# Altium schematic symbol library Interface_Optical.SchLib: 42 symbols
Pins are listed as number, name and electrical type; pins without a type are passive.

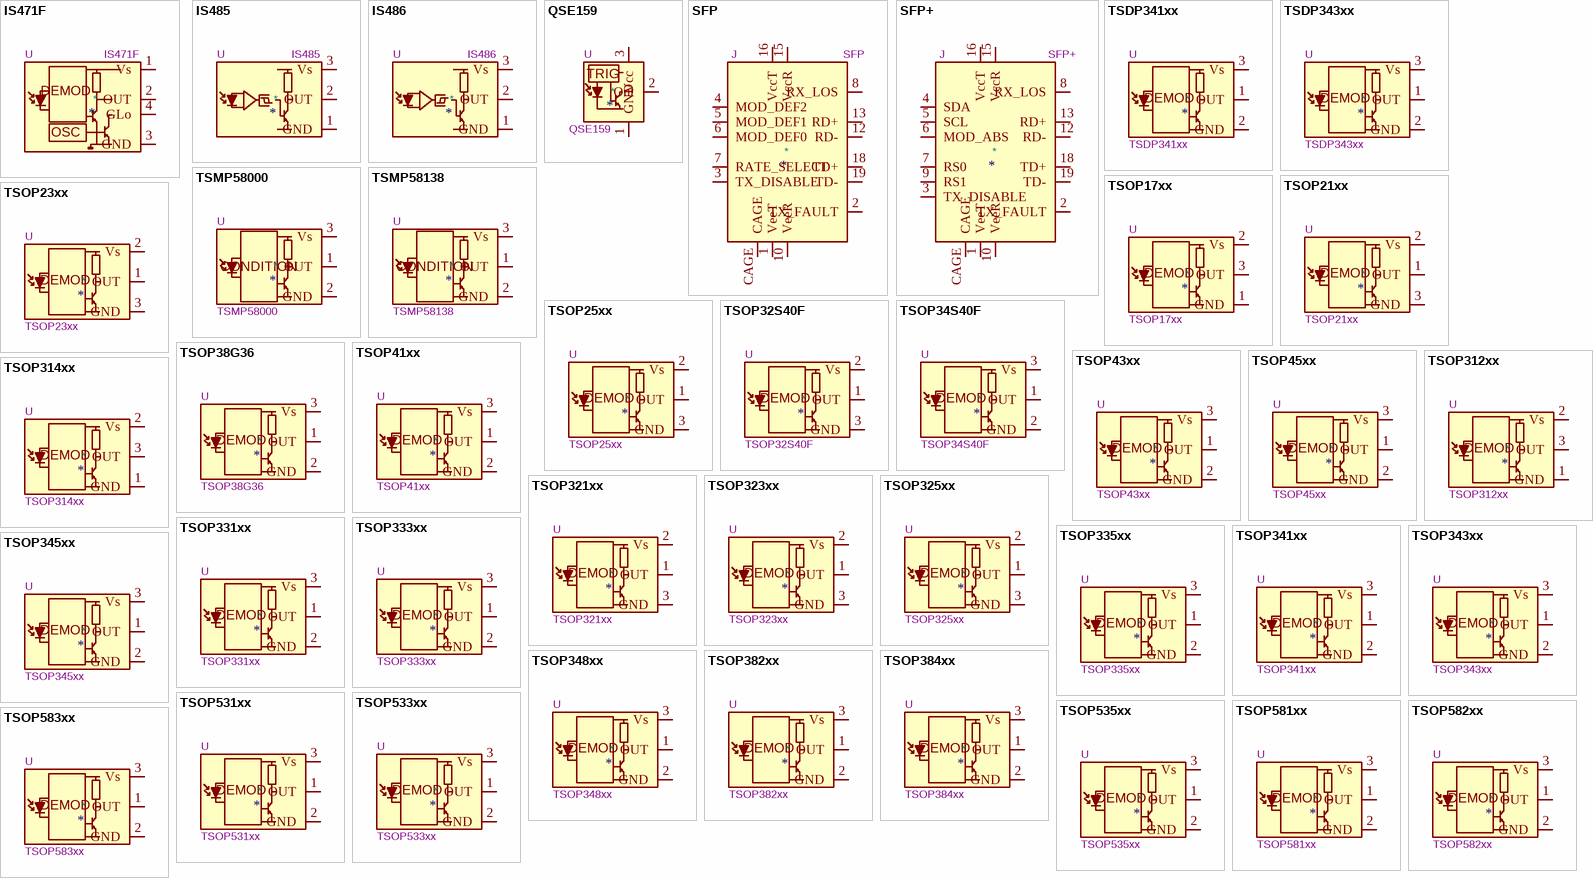
[diagram p0: symbols IS471F to TSOP583xx]

## IS471F
designator *  value IS471F  Reference: U
ki_keywords: opto IR receiver; ki_description: Photo Modules for PCM Remote Control Systems; ki_fp_filters: Sharp*IS471F*; Footprint: OptoDevice:Sharp_IS471F; Datasheet: http://www.micropik.com/PDF/tsop17xx.pdf
pins: 1 Vs, 2 OUT, 3 GND, 4 GLo
text: DEMOD; OSC

## IS485
designator *  value IS485  Reference: U
ki_keywords: opto receiver amplifier light detector OPIC; ki_description: Built-in Amplifier Type OPIC Light Detector; ki_fp_filters: Sharp*IS485*; Footprint: OptoDevice:Sharp_IS485; Datasheet: https://media.digikey.com/pdf/Data%20Sheets/Sharp%20PDFs/is485,486_e.pdf
pins: 1 GND, 2 OUT, 3 Vs

## IS486
designator *  value IS486  Reference: U
ki_keywords: opto receiver amplifier light detector OPIC; ki_description: Built-in Amplifier Type OPIC Light Detector; ki_fp_filters: Sharp*IS485*; Footprint: OptoDevice:Sharp_IS485; Datasheet: https://media.digikey.com/pdf/Data%20Sheets/Sharp%20PDFs/is485,486_e.pdf
pins: 1 GND, 2 OUT, 3 Vs

## QSE159
designator *  value QSE159  Reference: U
ki_keywords: opto IR; ki_description: Plastic Silicon Photosensor; ki_fp_filters: *QSE15*; Footprint: OptoDevice:ONSemi_QSE15x; Datasheet: http://www.onsemi.com/pub/Collateral/QSE159-D.pdf
pins: 1 GND, 2 Out, 3 Vcc
text: TRIG

## SFP
designator *  value SFP  Reference: J
ki_keywords: SFP transceiver gigabit ethernet INF-8074i; ki_description: Connector for Small Form Factor Pluggable (SFP) module, 1 Gbit/s, serial-to-serial data-agnostic optical transceiver; ki_fp_filters: *SFP*; Datasheet: http://www.10gtek.com/templates/wzten/pdf/INF-8074.pdf
pins: 1 VeeT, 2 TX_FAULT, 3 TX_DISABLE, 4 MOD_DEF2, 5 MOD_DEF1, 6 MOD_DEF0, 7 RATE_SELECT, 8 RX_LOS, 9 VeeR hidden, 10 VeeR, 11 VeeR hidden, 12 RD-, 13 RD+, 14 VeeR hidden, 15 VccR, 16 VccT, 17 VeeT hidden, 18 TD+, 19 TD-, 20 VeeT hidden, CAGE

## SFP+
designator *  value SFP+  Reference: J
ki_keywords: SFP transceiver gigabit ethernet SFF-8432; ki_description: Connector for Small Form Factor Pluggable (SFP+) module, 10 Gbit/s, serial-to-serial data-agnostic optical transceiver; ki_fp_filters: *SFP*; Datasheet: https://members.snia.org/document/dl/25892
pins: 1 VeeT, 2 TX_FAULT, 3 TX_DISABLE, 4 SDA, 5 SCL, 6 MOD_ABS, 7 RS0, 8 RX_LOS, 9 RS1, 10 VeeR, 11 VeeR hidden, 12 RD-, 13 RD+, 14 VeeR hidden, 15 VccR, 16 VccT, 17 VeeT hidden, 18 TD+, 19 TD-, 20 VeeT hidden, CAGE

## TSDP341xx
designator *  value TSDP341xx  Reference: U
ki_keywords: opto IR receiver; ki_description: IR Receiver Modules for Data Transmission; ki_fp_filters: Vishay*MOLD*; Footprint: OptoDevice:Vishay_MOLD-3Pin; Datasheet: http://www.vishay.com/docs/82667/tsdp341.pdf
pins: 1 OUT, 2 GND, 3 Vs
text: DEMOD

## TSDP343xx
designator *  value TSDP343xx  Reference: U
ki_keywords: opto IR receiver; ki_description: IR Receiver Modules for Data Transmission; ki_fp_filters: Vishay*MOLD*; Footprint: OptoDevice:Vishay_MOLD-3Pin; Datasheet: http://www.vishay.com/docs/82667/tsdp341.pdf
pins: 1 OUT, 2 GND, 3 Vs
text: DEMOD

## TSMP58000
designator *  value TSMP58000  Reference: U
ki_keywords: opto IR receiver; ki_description: Photo Module (Amplify&Condition) for PCM Remote Control Systems; ki_fp_filters: Vishay*MINICAST*; Footprint: OptoDevice:Vishay_MINICAST-3Pin; Datasheet: http://www.vishay.com/docs/82485/tsmp58000.pdf
pins: 1 OUT, 2 GND, 3 Vs
text: CONDITION

## TSMP58138
designator *  value TSMP58138  Reference: U
ki_keywords: opto IR repeater receiver; ki_description: Photo Module (Repeater) for PCM Remote Control Systems; ki_fp_filters: Vishay*MINICAST*; Footprint: OptoDevice:Vishay_MINICAST-3Pin; Datasheet: http://www.vishay.com/docs/82486/tsmp58138.pdf
pins: 1 OUT, 2 GND, 3 Vs
text: CONDITION

## TSOP17xx
designator *  value TSOP17xx  Reference: U
ki_keywords: opto IR receiver; ki_description: Photo Modules for PCM Remote Control Systems; ki_fp_filters: Vishay*CAST*; Footprint: OptoDevice:Vishay_CAST-3Pin; Datasheet: http://www.micropik.com/PDF/tsop17xx.pdf
pins: 1 GND, 2 Vs, 3 OUT
text: DEMOD

## TSOP21xx
designator *  value TSOP21xx  Reference: U
ki_keywords: opto IR receiver; ki_description: IR Receiver Modules for Remote Control Systems; ki_fp_filters: Vishay*MOLD*; Footprint: OptoDevice:Vishay_MOLD-3Pin; Datasheet: http://www.vishay.com/docs/82460/tsop45.pdf
pins: 1 OUT, 2 Vs, 3 GND
text: DEMOD

## TSOP23xx
designator *  value TSOP23xx  Reference: U
ki_keywords: opto IR receiver; ki_description: IR Receiver Modules for Remote Control Systems; ki_fp_filters: Vishay*MOLD*; Footprint: OptoDevice:Vishay_MOLD-3Pin; Datasheet: http://www.vishay.com/docs/82460/tsop45.pdf
pins: 1 OUT, 2 Vs, 3 GND
text: DEMOD

## TSOP25xx
designator *  value TSOP25xx  Reference: U
ki_keywords: opto IR receiver; ki_description: IR Receiver Modules for Remote Control Systems; ki_fp_filters: Vishay*MOLD*; Footprint: OptoDevice:Vishay_MOLD-3Pin; Datasheet: http://www.vishay.com/docs/82460/tsop45.pdf
pins: 1 OUT, 2 Vs, 3 GND
text: DEMOD

## TSOP32S40F
designator *  value TSOP32S40F  Reference: U
ki_keywords: opto IR receiver; ki_description: IR Receiver Modules for Remote Control Systems; ki_fp_filters: Vishay*MOLD*; Footprint: OptoDevice:Vishay_MOLD-3Pin; Datasheet: http://www.vishay.com/docs/82669/tsop32s40f.pdf
pins: 1 OUT, 2 Vs, 3 GND
text: DEMOD

## TSOP34S40F
designator *  value TSOP34S40F  Reference: U
ki_keywords: opto IR receiver; ki_description: IR Receiver Modules for Remote Control Systems; ki_fp_filters: Vishay*MOLD*; Footprint: OptoDevice:Vishay_MOLD-3Pin; Datasheet: http://www.vishay.com/docs/82669/tsop32s40f.pdf
pins: 1 OUT, 2 GND, 3 Vs
text: DEMOD

## TSOP38G36
designator *  value TSOP38G36  Reference: U
ki_keywords: opto IR receiver; ki_description: Photo Modules for PCM Remote Control Systems; ki_fp_filters: Vishay*MINICAST*; Footprint: OptoDevice:Vishay_MINICAST-3Pin; Datasheet: http://www.vishay.com/docs/82731/tsop38g36.pdf
pins: 1 OUT, 2 GND, 3 Vs
text: DEMOD

## TSOP41xx
designator *  value TSOP41xx  Reference: U
ki_keywords: opto IR receiver; ki_description: IR Receiver Modules for Remote Control Systems; ki_fp_filters: Vishay*MOLD*; Footprint: OptoDevice:Vishay_MOLD-3Pin; Datasheet: http://www.vishay.com/docs/82460/tsop45.pdf
pins: 1 OUT, 2 GND, 3 Vs
text: DEMOD

## TSOP43xx
designator *  value TSOP43xx  Reference: U
ki_keywords: opto IR receiver; ki_description: IR Receiver Modules for Remote Control Systems; ki_fp_filters: Vishay*MOLD*; Footprint: OptoDevice:Vishay_MOLD-3Pin; Datasheet: http://www.vishay.com/docs/82460/tsop45.pdf
pins: 1 OUT, 2 GND, 3 Vs
text: DEMOD

## TSOP45xx
designator *  value TSOP45xx  Reference: U
ki_keywords: opto IR receiver; ki_description: IR Receiver Modules for Remote Control Systems; ki_fp_filters: Vishay*MOLD*; Footprint: OptoDevice:Vishay_MOLD-3Pin; Datasheet: http://www.vishay.com/docs/82460/tsop45.pdf
pins: 1 OUT, 2 GND, 3 Vs
text: DEMOD

## TSOP312xx
designator *  value TSOP312xx  Reference: U
ki_keywords: opto IR receiver; ki_description: Photo Modules for PCM Remote Control Systems; ki_fp_filters: Vishay*CAST*; Footprint: OptoDevice:Vishay_CAST-3Pin; Datasheet: http://www.vishay.com/docs/82492/tsop312.pdf
pins: 1 GND, 2 Vs, 3 OUT
text: DEMOD

## TSOP314xx
designator *  value TSOP314xx  Reference: U
ki_keywords: opto IR receiver; ki_description: Photo Modules for PCM Remote Control Systems; ki_fp_filters: Vishay*CAST*; Footprint: OptoDevice:Vishay_CAST-3Pin; Datasheet: http://www.vishay.com/docs/82492/tsop312.pdf
pins: 1 GND, 2 Vs, 3 OUT
text: DEMOD

## TSOP321xx
designator *  value TSOP321xx  Reference: U
ki_keywords: opto IR receiver; ki_description: IR Receiver Modules for Remote Control Systems; ki_fp_filters: Vishay*MOLD*; Footprint: OptoDevice:Vishay_MOLD-3Pin; Datasheet: http://www.vishay.com/docs/82490/tsop321.pdf
pins: 1 OUT, 2 Vs, 3 GND
text: DEMOD

## TSOP323xx
designator *  value TSOP323xx  Reference: U
ki_keywords: opto IR receiver; ki_description: IR Receiver Modules for Remote Control Systems; ki_fp_filters: Vishay*MOLD*; Footprint: OptoDevice:Vishay_MOLD-3Pin; Datasheet: http://www.vishay.com/docs/82490/tsop321.pdf
pins: 1 OUT, 2 Vs, 3 GND
text: DEMOD

## TSOP325xx
designator *  value TSOP325xx  Reference: U
ki_keywords: opto IR receiver; ki_description: IR Receiver Modules for Remote Control Systems; ki_fp_filters: Vishay*MOLD*; Footprint: OptoDevice:Vishay_MOLD-3Pin; Datasheet: http://www.vishay.com/docs/82490/tsop321.pdf
pins: 1 OUT, 2 Vs, 3 GND
text: DEMOD

## TSOP331xx
designator *  value TSOP331xx  Reference: U
ki_keywords: opto IR receiver; ki_description: IR Receiver Modules for Remote Control Systems; ki_fp_filters: Vishay*MINIMOLD*; Footprint: OptoDevice:Vishay_MINIMOLD-3Pin; Datasheet: http://www.vishay.com/docs/82742/tsop331.pdf
pins: 1 OUT, 2 GND, 3 Vs
text: DEMOD

## TSOP333xx
designator *  value TSOP333xx  Reference: U
ki_keywords: opto IR receiver; ki_description: IR Receiver Modules for Remote Control Systems; ki_fp_filters: Vishay*MINIMOLD*; Footprint: OptoDevice:Vishay_MINIMOLD-3Pin; Datasheet: http://www.vishay.com/docs/82742/tsop331.pdf
pins: 1 OUT, 2 GND, 3 Vs
text: DEMOD

## TSOP335xx
designator *  value TSOP335xx  Reference: U
ki_keywords: opto IR receiver; ki_description: IR Receiver Modules for Remote Control Systems; ki_fp_filters: Vishay*MINIMOLD*; Footprint: OptoDevice:Vishay_MINIMOLD-3Pin; Datasheet: http://www.vishay.com/docs/82742/tsop331.pdf
pins: 1 OUT, 2 GND, 3 Vs
text: DEMOD

## TSOP341xx
designator *  value TSOP341xx  Reference: U
ki_keywords: opto IR receiver; ki_description: IR Receiver Modules for Remote Control Systems; ki_fp_filters: Vishay*MOLD*; Footprint: OptoDevice:Vishay_MOLD-3Pin; Datasheet: http://www.vishay.com/docs/82490/tsop321.pdf
pins: 1 OUT, 2 GND, 3 Vs
text: DEMOD

## TSOP343xx
designator *  value TSOP343xx  Reference: U
ki_keywords: opto IR receiver; ki_description: IR Receiver Modules for Remote Control Systems; ki_fp_filters: Vishay*MOLD*; Footprint: OptoDevice:Vishay_MOLD-3Pin; Datasheet: http://www.vishay.com/docs/82490/tsop321.pdf
pins: 1 OUT, 2 GND, 3 Vs
text: DEMOD

## TSOP345xx
designator *  value TSOP345xx  Reference: U
ki_keywords: opto IR receiver; ki_description: IR Receiver Modules for Remote Control Systems; ki_fp_filters: Vishay*MOLD*; Footprint: OptoDevice:Vishay_MOLD-3Pin; Datasheet: http://www.vishay.com/docs/82490/tsop321.pdf
pins: 1 OUT, 2 GND, 3 Vs
text: DEMOD

## TSOP348xx
designator *  value TSOP348xx  Reference: U
ki_keywords: opto IR receiver; ki_description: IR Receiver Modules for Remote Control Systems; ki_fp_filters: Vishay*MOLD*; Footprint: OptoDevice:Vishay_MOLD-3Pin; Datasheet: https://www.vishay.com/docs/82489/tsop322.pdf
pins: 1 OUT, 2 GND, 3 Vs
text: DEMOD

## TSOP382xx
designator *  value TSOP382xx  Reference: U
ki_keywords: opto IR receiver; ki_description: Photo Modules for PCM Remote Control Systems; ki_fp_filters: Vishay*MINICAST*; Footprint: OptoDevice:Vishay_MINICAST-3Pin; Datasheet: http://www.vishay.com/docs/82491/tsop382.pdf
pins: 1 OUT, 2 GND, 3 Vs
text: DEMOD

## TSOP384xx
designator *  value TSOP384xx  Reference: U
ki_keywords: opto IR receiver; ki_description: Photo Modules for PCM Remote Control Systems; ki_fp_filters: Vishay*MINICAST*; Footprint: OptoDevice:Vishay_MINICAST-3Pin; Datasheet: http://www.vishay.com/docs/82491/tsop382.pdf
pins: 1 OUT, 2 GND, 3 Vs
text: DEMOD

## TSOP531xx
designator *  value TSOP531xx  Reference: U
ki_keywords: opto IR receiver; ki_description: IR Receiver Modules for Remote Control Systems; ki_fp_filters: Vishay*MINIMOLD*; Footprint: OptoDevice:Vishay_MINIMOLD-3Pin; Datasheet: http://www.vishay.com/docs/82745/tsop531.pdf
pins: 1 OUT, 2 GND, 3 Vs
text: DEMOD

## TSOP533xx
designator *  value TSOP533xx  Reference: U
ki_keywords: opto IR receiver; ki_description: IR Receiver Modules for Remote Control Systems; ki_fp_filters: Vishay*MINIMOLD*; Footprint: OptoDevice:Vishay_MINIMOLD-3Pin; Datasheet: http://www.vishay.com/docs/82745/tsop531.pdf
pins: 1 OUT, 2 GND, 3 Vs
text: DEMOD

## TSOP535xx
designator *  value TSOP535xx  Reference: U
ki_keywords: opto IR receiver; ki_description: IR Receiver Modules for Remote Control Systems; ki_fp_filters: Vishay*MINIMOLD*; Footprint: OptoDevice:Vishay_MINIMOLD-3Pin; Datasheet: http://www.vishay.com/docs/82745/tsop531.pdf
pins: 1 OUT, 2 GND, 3 Vs
text: DEMOD

## TSOP581xx
designator *  value TSOP581xx  Reference: U
ki_keywords: opto IR receiver; ki_description: Photo Modules for PCM Remote Control Systems; ki_fp_filters: Vishay*MINICAST*; Footprint: OptoDevice:Vishay_MINICAST-3Pin; Datasheet: http://www.vishay.com/docs/82462/tsop581.pdf
pins: 1 OUT, 2 GND, 3 Vs
text: DEMOD

## TSOP582xx
designator *  value TSOP582xx  Reference: U
ki_keywords: opto IR receiver; ki_description: Photo Modules for PCM Remote Control Systems; ki_fp_filters: Vishay*MINICAST*; Footprint: OptoDevice:Vishay_MINICAST-3Pin; Datasheet: http://www.vishay.com/docs/82461/tsop582.pdf
pins: 1 OUT, 2 GND, 3 Vs
text: DEMOD

## TSOP583xx
designator *  value TSOP583xx  Reference: U
ki_keywords: opto IR receiver; ki_description: Photo Modules for PCM Remote Control Systems; ki_fp_filters: Vishay*MINICAST*; Footprint: OptoDevice:Vishay_MINICAST-3Pin; Datasheet: http://www.vishay.com/docs/82462/tsop581.pdf
pins: 1 OUT, 2 GND, 3 Vs
text: DEMOD

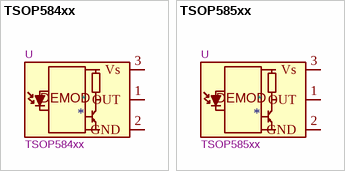
[diagram p1: symbols TSOP584xx to TSOP585xx]

## TSOP584xx
designator *  value TSOP584xx  Reference: U
ki_keywords: opto IR receiver; ki_description: Photo Modules for PCM Remote Control Systems; ki_fp_filters: Vishay*MINICAST*; Footprint: OptoDevice:Vishay_MINICAST-3Pin; Datasheet: http://www.vishay.com/docs/82461/tsop582.pdf
pins: 1 OUT, 2 GND, 3 Vs
text: DEMOD

## TSOP585xx
designator *  value TSOP585xx  Reference: U
ki_keywords: opto IR receiver; ki_description: Photo Modules for PCM Remote Control Systems; ki_fp_filters: Vishay*MINICAST*; Footprint: OptoDevice:Vishay_MINICAST-3Pin; Datasheet: http://www.vishay.com/docs/82462/tsop581.pdf
pins: 1 OUT, 2 GND, 3 Vs
text: DEMOD